# Altium footprint library TENSILITY_54-00177.PcbLib: 1 footprints
Each footprint in its own frame and in the unit in brackets; x right, y up, seen from the top. Pads: shape width x height; smd on the part's side, far side on the other; paste and mask are expansions set on the pad; w line width, h text height; cw(c..) or ccw(c..) is an arc to the next point about the centre after c.
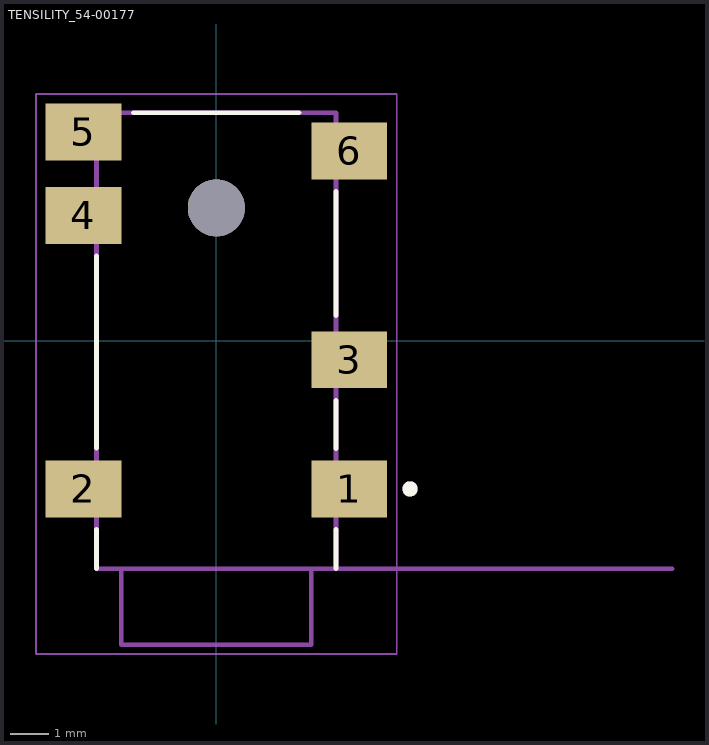
[diagram p0: the footprint, top view; thin cyan lines are the x and y axes]

## TENSILITY_54-00177 [mm]
height 4.5
pads (7):
  rect 2x1.5 smd mask+0.05: 1(3.5,-3.9) 2(-3.5,-3.9) 3(3.5,-0.5) 4(-3.5,3.3) 5(-3.5,5.5) 6(3.5,5)
  round 1.5 hole 1.5 unplated: ""(0,3.5)
Top Overlay:
  circle w0.2: c5.1,-3.9 r0.1
  lines w0.127: -3.15,-6 -3.15,-4.97 ; -3.15,-2.83 -3.15,2.23 ; -2.18,6 2.18,6 ; 3.15,-6 3.15,-4.97 ; 3.15,-2.835 3.15,-1.57 ; 3.15,0.656 3.15,3.93
Mechanical 13:
  circle w0.2: c5.1,-3.9 r0.1
  lines w0.127: 12,-6 3.15,-6 ; -2.5,-6 -3.15,-6 -3.15,6 3.15,6 3.15,-6 ; -2.5,-6 -2.5,-8 2.5,-8 2.5,-6 ; -2.5,-6 2.5,-6 ; 2.5,-6 3.15,-6
  text "PCB EDGE" at 5.25,-5.75 h1
Mechanical 15:
  lines w0.05: -4.75,-8.25 -4.75,6.5 4.75,6.5 4.75,-8.25 -4.75,-8.25
3D body "step_temp.STEP": height 4.8, standoff -0.6, extent -4.155,-8 4.15,6